# Altium schematic symbol library TI Power Management DC-DC Controller (External Switch).SchLib: 349 symbols (part 16 of 26)
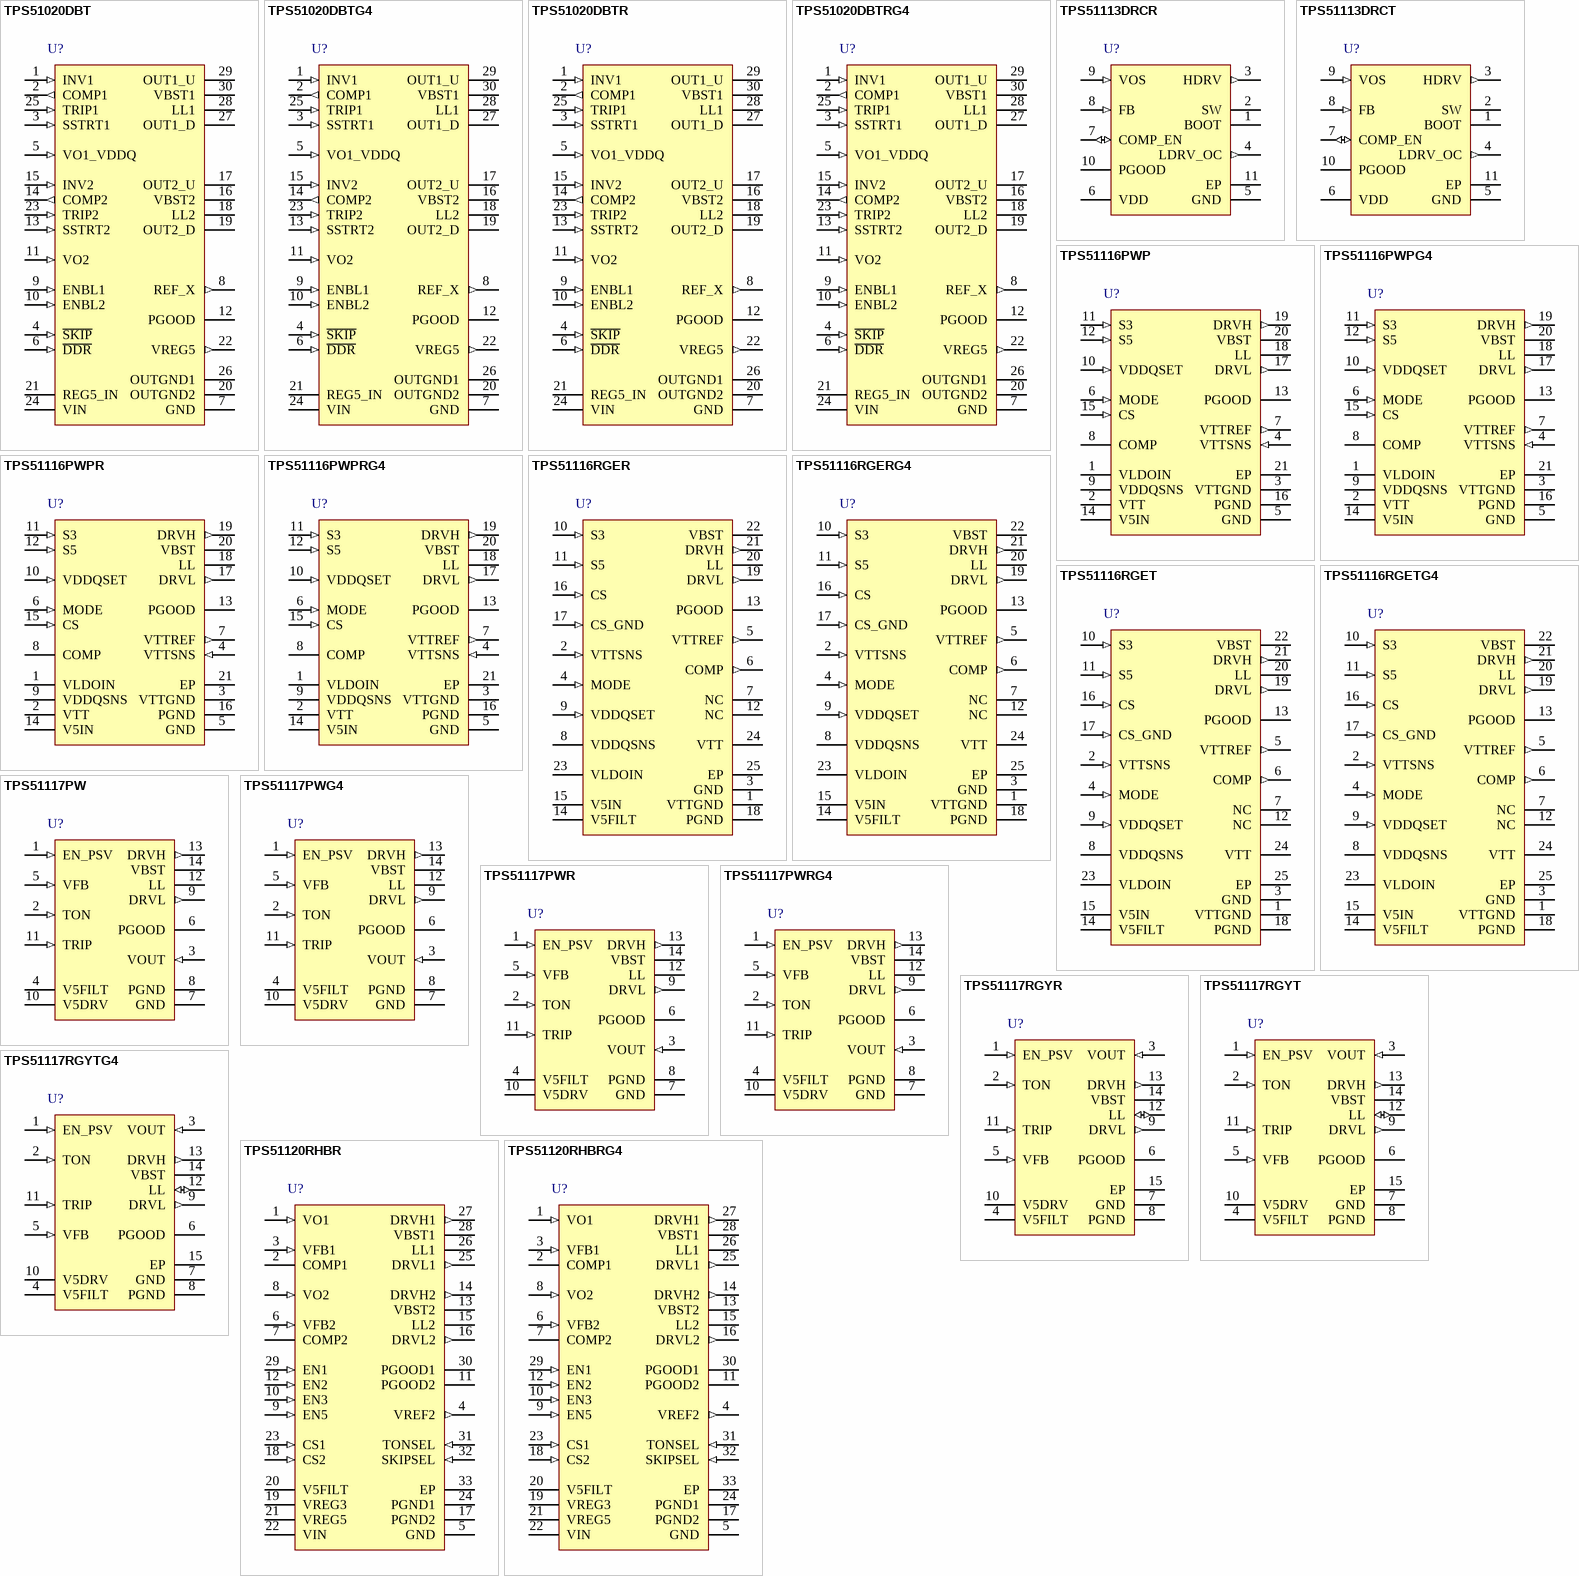
[diagram p29: symbols TPS51020DBT to TPS51120RHBRG4]

## TPS51020DBTR
designator U?
Dual, DDR selectable, Synchronous buck controller, 88 % Duty Cycle, 4.5 to 28 V, -40 to 85 degC, 30-pin TSSOP (DBT), Green (RoHS & no Sb/Br); Manufacturer: Texas Instruments; PartNumber: TPS51020DBTR; Duty Cycle(Max)(%): 88; Iout(Max)(A): 20; Regulated Outputs(#): 2; SubFamily: Multiple-Output Switching Controller; Switching Frequency(Max)(kHz): 450; Synchronous Rectification: TRUE; Vin(Max)(V): 28; Vin(Min)(V): 4.5; Vout(Max)(V): 24; Vout(Min)(V): 0.9; DatasheetVersion: SLUS564C; PackageVersion: Sep-2005; PackageReference: DBT30; PackageDescription: 30-Pin Thin Shrink Small Outline Package 0.5 mm Pitch; Supplier 1: Digi-Key; Supplier Part Number 1: 296-26971-2-ND; Eco-Plan: Green (RoHS & no Sb/Br); Iout2(A): 20; Topology: Buck; Vout2(Max)(V): 24; Vout2(Min)(V): 0.9; Mounting Technology: Surface Mount; Code_JEDEC: MO-153; ComponentLink1Description: Datasheet; ComponentLink1URL: http://www.ti.com/general/docs/lit/getliterature.tsp?genericPartNumber=TPS51020&fileType=pdf; ComponentLink2Description: Package Specification; ComponentLink2URL: http://www.ti.com/litv/pdf/mpds019h
footprint DBT30_N (TSSOP, 30-Leads, Body 7.8x4.4mm, Pitch 0.5mm, IPC Medium Density)
footprint DBT30_L (TSSOP, 30-Leads, Body 7.8x4.4mm, Pitch 0.5mm, IPC High Density)
footprint DBT30_M (TSSOP, 30-Leads, Body 7.8x4.4mm, Pitch 0.5mm, IPC Low Density)
pins: 1 INV1 (in) "Error amplifier inverting input. Also input for skip comparator, and OVP/UVP comparators.", 2 COMP1 (out) "Error amplifier output. Connect feedback network to this pin and INVx for compensation of control loop.", 3 SSTRT1 (in) "Soft-start/frequency select input. Connect a capacitor between SSTRTx and ground for adjusting the softstart time. A constant current fed to this capacitor ramps the reference during startup. Frequency selection is de- (See Datasheet)", 4 ~{SKIP} (in) "Skip mode selection pin. Ground for automatic control between PWM mode in heavy load and hysteretic operation in light load. Tie high for PWM only operation for the entire load condition. If D\D\R\ is grounded, then skip (See Datasheet)", 5 VO1_VDDQ (in) "Output discharge pin. Connect this pin to the SMPS output. The output is discharged to at least 0.3 V before the channel can start-up again. If D\D\R\ is low, then the VO1_VDDQ pin must be connected to the VDDQ output since (See Datasheet)", 6 ~{DDR} (in) "D\D\R\ selection pin. If this pin is grounded, the device runs in DDR Mode. The error amplifier reference for VO2 is (VO1_VDDQ)/2, the REF_X output voltage becomes (VO1_VDDQ)/2 and skip mode is disabled for VO2, Also, VREG5 (See Datasheet)", 7 GND (power) "Signal ground pin.", 8 REF_X (out) "10-V N-channel MOSFET bias or (VO1_VDDQ)/2 reference output. If dual mode is selected (D\D\R\ > 2.2 V) then this pin provides a low 10-V current (< 2 mA) bias, dropped down from VIN, for the SO - S5 switched N-channel (See Datasheet)", 9 ENBL1 (in) "TTL Enable Input. If ENBLx is greater than 2.2 V, then the VREG5 is enabled (DDR mode) and the SMPS of that channel attempts to turn on. If both ENBL1 and ENBL2 are low then the 10-V (or (VO1_VDDQ)/2 output) voltage as well (See Datasheet)", 10 ENBL2 (in) "TTL Enable Input. If ENBLx is greater than 2.2 V, then the VREG5 is enabled (DDR mode) and the SMPS of that channel attempts to turn on. If both ENBL1 and ENBL2 are low then the 10-V (or (VO1_VDDQ)/2 output) voltage as well (See Datasheet)", 11 VO2 (in) "Output discharge pin. Connect this pin to the SMPS output. The output is discharged to at least 0.3 V before the channel can start-up again. If D\D\R\ is low, then the VO1_VDDQ pin must be connected to the VDDQ output since (See Datasheet)", 12 PGOOD (oc) "Power good output. This is an open drain pull-down pin for power good. It remains low during soft-start until both outputs become within +/-7.5%. If INV1 or INV2 is out of regulation, or VREG5V goes under UVLO then this pin (See Datasheet)", 13 SSTRT2 (in) "Soft-start/frequency select input. Connect a capacitor between SSTRTx and ground for adjusting the softstart time. A constant current fed to this capacitor ramps the reference during startup. Frequency selection is de- (See Datasheet)", 14 COMP2 (out) "Error amplifier output. Connect feedback network to this pin and INVx for compensation of control loop.", 15 INV2 (in) "Error amplifier inverting input. Also input for skip comparator, and OVP/UVP comparators.", 16 VBST2 (power) "Supply Input for high-side N-channel FET driver. Typically connected via charge pump from LLx.", 17 OUT2_U (hiz) "High-side N-channel MOSFET driver output.", 18 LL2 (power) "Switch-node connection for high-side driver and overcurrent protection circuitry.", 19 OUT2_D (hiz) "Synchronous N-channel MOSFET driver output.", 20 OUTGND2 (power) "Ground return for OUTx_D.", 21 REG5_IN (power) "External 5V regulator Input. If this pin is above 4.7 V, then the 5 V circuit bias switches from the VREF5 to the supply presented to REG5_IN.", 22 VREG5 (out) "Internal, 60-mA, 5-V regulator output. D\D\R\, ENBL1 or ENBL2 high ( > 2.2V) turns on the 5 V regulator.", 23 TRIP2 (in) "Channel 2 overcurrent trip point voltage input. Connect a resistor between TRIP2 and the high-side N-channel MOSFET input conversion voltage for high-side N-channel MOSFET UVP current limit shut down with a 180degrees (See Datasheet)", 24 VIN (power) "High-voltage input. Typically the battery voltage. This pin serves as inputs for the VREF5 regulator, the REF_X regulator and positive input for overcurrent comparators. Precaution should be taken for tracing between this (See Datasheet)", 25 TRIP1 (in) "Channel 1 overcurrent trip point voltage input. Connect a resistor between TRIP1 and the high-side N-channel MOSFET input conversion voltage for high-side N-channel MOSFET UVP current limit shut down. Connect resistor (See Datasheet)", 26 OUTGND1 (power) "Ground return for OUTx_D.", 27 OUT1_D (hiz) "Synchronous N-channel MOSFET driver output.", 28 LL1 (power) "Switch-node connection for high-side driver and overcurrent protection circuitry.", 29 OUT1_U (hiz) "High-side N-channel MOSFET driver output.", 30 VBST1 (power) "Supply Input for high-side N-channel FET driver. Typically connected via charge pump from LLx."

## TPS51020DBTRG4
designator U?
Dual, DDR selectable, Synchronous buck controller, 88 % Duty Cycle, 4.5 to 28 V, -40 to 85 degC, 30-pin TSSOP (DBT), Green (RoHS & no Sb/Br); Manufacturer: Texas Instruments; PartNumber: TPS51020DBTRG4; Duty Cycle(Max)(%): 88; Iout(Max)(A): 20; Regulated Outputs(#): 2; SubFamily: Multiple-Output Switching Controller; Switching Frequency(Max)(kHz): 450; Synchronous Rectification: TRUE; Vin(Max)(V): 28; Vin(Min)(V): 4.5; Vout(Max)(V): 24; Vout(Min)(V): 0.9; DatasheetVersion: SLUS564C; PackageVersion: Sep-2005; PackageReference: DBT30; PackageDescription: 30-Pin Thin Shrink Small Outline Package 0.5 mm Pitch; Supplier 1: Digi-Key; Supplier Part Number 1: TPS51020DBTRG4-ND; Eco-Plan: Green (RoHS & no Sb/Br); Iout2(A): 20; Topology: Buck; Vout2(Max)(V): 24; Vout2(Min)(V): 0.9; Mounting Technology: Surface Mount; Code_JEDEC: MO-153; ComponentLink1Description: Datasheet; ComponentLink1URL: http://www.ti.com/general/docs/lit/getliterature.tsp?genericPartNumber=TPS51020&fileType=pdf; ComponentLink2Description: Package Specification; ComponentLink2URL: http://www.ti.com/litv/pdf/mpds019h
footprint DBT30_N (TSSOP, 30-Leads, Body 7.8x4.4mm, Pitch 0.5mm, IPC Medium Density)
footprint DBT30_L (TSSOP, 30-Leads, Body 7.8x4.4mm, Pitch 0.5mm, IPC High Density)
footprint DBT30_M (TSSOP, 30-Leads, Body 7.8x4.4mm, Pitch 0.5mm, IPC Low Density)
pins: 1 INV1 (in) "Error amplifier inverting input. Also input for skip comparator, and OVP/UVP comparators.", 2 COMP1 (out) "Error amplifier output. Connect feedback network to this pin and INVx for compensation of control loop.", 3 SSTRT1 (in) "Soft-start/frequency select input. Connect a capacitor between SSTRTx and ground for adjusting the softstart time. A constant current fed to this capacitor ramps the reference during startup. Frequency selection is de- (See Datasheet)", 4 ~{SKIP} (in) "Skip mode selection pin. Ground for automatic control between PWM mode in heavy load and hysteretic operation in light load. Tie high for PWM only operation for the entire load condition. If D\D\R\ is grounded, then skip (See Datasheet)", 5 VO1_VDDQ (in) "Output discharge pin. Connect this pin to the SMPS output. The output is discharged to at least 0.3 V before the channel can start-up again. If D\D\R\ is low, then the VO1_VDDQ pin must be connected to the VDDQ output since (See Datasheet)", 6 ~{DDR} (in) "D\D\R\ selection pin. If this pin is grounded, the device runs in DDR Mode. The error amplifier reference for VO2 is (VO1_VDDQ)/2, the REF_X output voltage becomes (VO1_VDDQ)/2 and skip mode is disabled for VO2, Also, VREG5 (See Datasheet)", 7 GND (power) "Signal ground pin.", 8 REF_X (out) "10-V N-channel MOSFET bias or (VO1_VDDQ)/2 reference output. If dual mode is selected (D\D\R\ > 2.2 V) then this pin provides a low 10-V current (< 2 mA) bias, dropped down from VIN, for the SO - S5 switched N-channel (See Datasheet)", 9 ENBL1 (in) "TTL Enable Input. If ENBLx is greater than 2.2 V, then the VREG5 is enabled (DDR mode) and the SMPS of that channel attempts to turn on. If both ENBL1 and ENBL2 are low then the 10-V (or (VO1_VDDQ)/2 output) voltage as well (See Datasheet)", 10 ENBL2 (in) "TTL Enable Input. If ENBLx is greater than 2.2 V, then the VREG5 is enabled (DDR mode) and the SMPS of that channel attempts to turn on. If both ENBL1 and ENBL2 are low then the 10-V (or (VO1_VDDQ)/2 output) voltage as well (See Datasheet)", 11 VO2 (in) "Output discharge pin. Connect this pin to the SMPS output. The output is discharged to at least 0.3 V before the channel can start-up again. If D\D\R\ is low, then the VO1_VDDQ pin must be connected to the VDDQ output since (See Datasheet)", 12 PGOOD (oc) "Power good output. This is an open drain pull-down pin for power good. It remains low during soft-start until both outputs become within +/-7.5%. If INV1 or INV2 is out of regulation, or VREG5V goes under UVLO then this pin (See Datasheet)", 13 SSTRT2 (in) "Soft-start/frequency select input. Connect a capacitor between SSTRTx and ground for adjusting the softstart time. A constant current fed to this capacitor ramps the reference during startup. Frequency selection is de- (See Datasheet)", 14 COMP2 (out) "Error amplifier output. Connect feedback network to this pin and INVx for compensation of control loop.", 15 INV2 (in) "Error amplifier inverting input. Also input for skip comparator, and OVP/UVP comparators.", 16 VBST2 (power) "Supply Input for high-side N-channel FET driver. Typically connected via charge pump from LLx.", 17 OUT2_U (hiz) "High-side N-channel MOSFET driver output.", 18 LL2 (power) "Switch-node connection for high-side driver and overcurrent protection circuitry.", 19 OUT2_D (hiz) "Synchronous N-channel MOSFET driver output.", 20 OUTGND2 (power) "Ground return for OUTx_D.", 21 REG5_IN (power) "External 5V regulator Input. If this pin is above 4.7 V, then the 5 V circuit bias switches from the VREF5 to the supply presented to REG5_IN.", 22 VREG5 (out) "Internal, 60-mA, 5-V regulator output. D\D\R\, ENBL1 or ENBL2 high ( > 2.2V) turns on the 5 V regulator.", 23 TRIP2 (in) "Channel 2 overcurrent trip point voltage input. Connect a resistor between TRIP2 and the high-side N-channel MOSFET input conversion voltage for high-side N-channel MOSFET UVP current limit shut down with a 180degrees (See Datasheet)", 24 VIN (power) "High-voltage input. Typically the battery voltage. This pin serves as inputs for the VREF5 regulator, the REF_X regulator and positive input for overcurrent comparators. Precaution should be taken for tracing between this (See Datasheet)", 25 TRIP1 (in) "Channel 1 overcurrent trip point voltage input. Connect a resistor between TRIP1 and the high-side N-channel MOSFET input conversion voltage for high-side N-channel MOSFET UVP current limit shut down. Connect resistor (See Datasheet)", 26 OUTGND1 (power) "Ground return for OUTx_D.", 27 OUT1_D (hiz) "Synchronous N-channel MOSFET driver output.", 28 LL1 (power) "Switch-node connection for high-side driver and overcurrent protection circuitry.", 29 OUT1_U (hiz) "High-side N-channel MOSFET driver output.", 30 VBST1 (power) "Supply Input for high-side N-channel FET driver. Typically connected via charge pump from LLx."

## TPS51113DRCR
designator U?
4.5 to 13.2 V Synchronous Buck Controller with High Current Gate Driver, 300 kHz, 72 % Duty Cycle, 4.5 to 13.2 V, -40 to 85 degC, 10-pin SON (DRC), Green (RoHS & no Sb/Br); Manufacturer: Texas Instruments; PartNumber: TPS51113DRCR; Duty Cycle(Max)(%): 72; Regulated Outputs(#): 1; SubFamily: Step-Down Controller; Switching Frequency(Max)(kHz): 300; Synchronous Rectification: TRUE; Vin(Max)(V): 13.2; Vin(Min)(V): 4.5; DatasheetVersion: SLUS864; PackageVersion: revL, Sep-2011; PackageReference: DRC10-2400X1650TP; PackageDescription: 10-Pin Plastic Small Outline No-Lead, 3 x 3 x 1 mm Body, 0.5 mm Pitch, Exposed Pad; Supplier 1: Digi-Key; Supplier Part Number 1: TPS51113DRCR-ND; Eco-Plan: Green (RoHS & no Sb/Br); Topology: Buck; Mounting Technology: Surface Mount; ComponentLink1Description: Datasheet; ComponentLink1URL: http://www.ti.com/general/docs/lit/getliterature.tsp?genericPartNumber=TPS51113&fileType=pdf; ComponentLink2Description: Package Specification; ComponentLink2URL: http://www.ti.com/litv/pdf/mpds117k
footprint DRC10-2400X1650TP (SON, 10-Leads, Body 3x3mm, Pitch 0.5mm, Thermal Pad 2.4x1.65mm, TI Recommended)
pins: 1 BOOT (power) "Gate drive voltage for the high-side N-channel MOSFET. Typically, a 100 nF capacitor must be connected between this pin and SW. Also, a diode from VDD to BOOT should be externally provided.", 2 SW (power) "Sense line for the adaptive anti-cross conduction circuitry. Serves as common connection for the flying high-side FET driver.", 3 HDRV (out) "Gate drive output for the high-side N-channel MOSFET.", 4 LDRV_OC (out) "Gate drive output for the low-side or rectifier MOSFET. The set point is read during start up calibration with the 10 uA current source present.", 5 GND (power) "Common reference for the device", 6 VDD (power) "Power input to the controller, 4.5 V to 13.2 V.", 7 COMP_EN (io) "Output of the error amplifier and the shutdown pin. Pulling the voltage on this pin lower than 800 mV shuts the controller down.", 8 FB (in) "Inverting input to the error amplifier. In normal operation, the voltage on this pin is equal to the internal reference voltage of 800mV.", 9 VOS (in) "Input to set undervoltage and overvoltage protections. Undervoltage protection occurs when VOS voltage is lower than 600mV. The controller shuts down with both MOSFETs latched off. Overvoltage protection occurs when VOS (See Datasheet)", 10 PGOOD (oc) "Open drain power good output. An external pull-up resistor is required.", 11 EP (power)

## TPS51113DRCT
designator U?
4.5 to 13.2 V Synchronous Buck Controller with High Current Gate Driver, 300 kHz, 72 % Duty Cycle, 4.5 to 13.2 V, -40 to 85 degC, 10-pin SON (DRC), Green (RoHS & no Sb/Br); Manufacturer: Texas Instruments; PartNumber: TPS51113DRCT; Duty Cycle(Max)(%): 72; Regulated Outputs(#): 1; SubFamily: Step-Down Controller; Switching Frequency(Max)(kHz): 300; Synchronous Rectification: TRUE; Vin(Max)(V): 13.2; Vin(Min)(V): 4.5; DatasheetVersion: SLUS864; PackageVersion: revL, Sep-2011; PackageReference: DRC10-2400X1650TP; PackageDescription: 10-Pin Plastic Small Outline No-Lead, 3 x 3 x 1 mm Body, 0.5 mm Pitch, Exposed Pad; Supplier 1: Digi-Key; Supplier Part Number 1: 296-24245-2-ND; Eco-Plan: Green (RoHS & no Sb/Br); Topology: Buck; Mounting Technology: Surface Mount; ComponentLink1Description: Datasheet; ComponentLink1URL: http://www.ti.com/general/docs/lit/getliterature.tsp?genericPartNumber=TPS51113&fileType=pdf; ComponentLink2Description: Package Specification; ComponentLink2URL: http://www.ti.com/litv/pdf/mpds117k
footprint DRC10-2400X1650TP (SON, 10-Leads, Body 3x3mm, Pitch 0.5mm, Thermal Pad 2.4x1.65mm, TI Recommended)
pins: 1 BOOT (power) "Gate drive voltage for the high-side N-channel MOSFET. Typically, a 100 nF capacitor must be connected between this pin and SW. Also, a diode from VDD to BOOT should be externally provided.", 2 SW (power) "Sense line for the adaptive anti-cross conduction circuitry. Serves as common connection for the flying high-side FET driver.", 3 HDRV (out) "Gate drive output for the high-side N-channel MOSFET.", 4 LDRV_OC (out) "Gate drive output for the low-side or rectifier MOSFET. The set point is read during start up calibration with the 10 uA current source present.", 5 GND (power) "Common reference for the device", 6 VDD (power) "Power input to the controller, 4.5 V to 13.2 V.", 7 COMP_EN (io) "Output of the error amplifier and the shutdown pin. Pulling the voltage on this pin lower than 800 mV shuts the controller down.", 8 FB (in) "Inverting input to the error amplifier. In normal operation, the voltage on this pin is equal to the internal reference voltage of 800mV.", 9 VOS (in) "Input to set undervoltage and overvoltage protections. Undervoltage protection occurs when VOS voltage is lower than 600mV. The controller shuts down with both MOSFETs latched off. Overvoltage protection occurs when VOS (See Datasheet)", 10 PGOOD (oc) "Open drain power good output. An external pull-up resistor is required.", 11 EP (power)

## TPS51116PWP
designator U?
DDR1, DDR2, DDR3 Switcher and LDO, 84 % Duty Cycle, 3 to 28 V, -40 to 85 degC, 20-pin HTSSOP (PWP), Green (RoHS & no Sb/Br); Manufacturer: Texas Instruments; PartNumber: TPS51116PWP; Duty Cycle(Max)(%): 84; Iout(Max)(A): 10; Regulated Outputs(#): 1; SubFamily: Multiple-Output Switching Controller; Switching Frequency(Max)(kHz): 400; Synchronous Rectification: TRUE; Topology: Buck, D-CAP Mode"; Vin(Max)(V): 28; Vin(Min)(V): 3; Vout(Min)(V): 1.5; DatasheetVersion: SLUS609H; PackageVersion: revI, May-2011; PackageReference: PWP20-3005X2005TP; PackageDescription: 20-Pin PowerPAD Plastic Small Outline 6.5 x 4.4 mm Body ,0.65 mm Pitch, Exposed Pad; Supplier 1: Digi-Key; Supplier Part Number 1: 296-17243-ND; Eco-Plan: Green (RoHS & no Sb/Br); Vout(Max)(V): 3; Mounting Technology: Surface Mount; Code_JEDEC: MO-153; ComponentLink1Description: Datasheet; ComponentLink1URL: http://www.ti.com/general/docs/lit/getliterature.tsp?genericPartNumber=TPS51116&fileType=pdf; ComponentLink2Description: Package Specification; ComponentLink2URL: http://www.ti.com/lit/ml/mhts001g/mhts001g.pdf
footprint PWP20-3005X2005TP_N (TSOP, 20-Leads, Body 6.5x4.4mm, Pitch 0.65mm, Thermal Pad 3.7x2.4 mm, IPC Medium Density)
footprint PWP20-3005X2005TP_L (TSOP, 20-Leads, Body 6.5x4.4mm, Pitch 0.65mm, Thermal Pad 3.7x2.4 mm, IPC High Density)
footprint PWP20-3005X2005TP_M (TSOP, 20-Leads, Body 6.5x4.4mm, Pitch 0.65mm, Thermal Pad 3.7x2.4 mm, IPC Low Density)
pins: 1 VLDOIN (power) "Power supply for the VTT LDO.", 2 VTT (power) "Power output for the VTT LDO.", 3 VTTGND (power) "Power ground output for the VTT LDO.", 4 VTTSNS (in) "Voltage sense input for the VTT LDO. Connect to plus terminal of the VTT LDO output capacitor.", 5 GND (power) "Signal ground. Connect to minus terminal of the VTT LDO output capacitor.", 6 MODE (in) "Discharge mode setting pin. See VDDQ and VTT Discharge Control section.", 7 VTTREF (out) "VTTREF buffered reference output.", 8 COMP "Output of the transconductance amplifier for phase compensation. Connect to V5IN to disable gm amplifier and use D-CAP mode.", 9 VDDQSNS "VDDQ reference input for VTT and VTTREF. Power supply for the VTTREF. Discharge current sinking terminal for VDDQ Non-tracking discharge. Output voltage feedback input for VDDQ output if VDDQSET pin is connected to V5IN or (See Datasheet)", 10 VDDQSET (in) "VDDQ output voltage setting pin. See VDDQ Output Voltage Selection section.", 11 S3 (in) "S3 signal input.", 12 S5 (in) "S5 signal input.", 13 PGOOD (oc) "Powergood signal open drain output, In HIGH state when VDDQ output voltage is within the target range.", 14 V5IN (power) "5-V power supply input for internal circuits (PWP) and MOSFET gate drivers (PWP, RGE).", 15 CS (in) "Current sense comparator input (-) for resistor current sense scheme. Or overcurrent trip voltage setting input for RDS(on) current sense scheme if connected to V5IN (PWP), V5FILT (RGE) through the voltage setting resistor.", 16 PGND (power) "Ground for rectifying (bottom) MOSFET gate driver (PWP, RGE). Also current sense comparator input(+) and ground for powergood circuit (PWP).", 17 DRVL (out) "Rectifying (bottom) MOSFET gate drive output.", 18 LL (power) "Switching (top) MOSFET gate driver return. Current sense comparator input (-) for RDS(on) current sense.", 19 DRVH (out) "Switching (top) MOSFET gate drive output.", 20 VBST (power) "Switching (top) MOSFET driver bootstrap voltage input.", 21 EP (power) "Exposed Thermal Pad."

## TPS51116PWPG4
designator U?
DDR1, DDR2, DDR3 Switcher and LDO, 84 % Duty Cycle, 3 to 28 V, -40 to 85 degC, 20-pin HTSSOP (PWP), Green (RoHS & no Sb/Br); Manufacturer: Texas Instruments; PartNumber: TPS51116PWPG4; Duty Cycle(Max)(%): 84; Iout(Max)(A): 10; Regulated Outputs(#): 1; SubFamily: Multiple-Output Switching Controller; Switching Frequency(Max)(kHz): 400; Synchronous Rectification: TRUE; Topology: Buck, D-CAP Mode"; Vin(Max)(V): 28; Vin(Min)(V): 3; Vout(Min)(V): 1.5; DatasheetVersion: SLUS609H; PackageVersion: revI, May-2011; PackageReference: PWP20-3005X2005TP; PackageDescription: 20-Pin PowerPAD Plastic Small Outline 6.5 x 4.4 mm Body ,0.65 mm Pitch, Exposed Pad; Supplier 1: Digi-Key; Supplier Part Number 1: TPS51116PWPG4-ND; Eco-Plan: Green (RoHS & no Sb/Br); Vout(Max)(V): 3; Mounting Technology: Surface Mount; Code_JEDEC: MO-153; ComponentLink1Description: Datasheet; ComponentLink1URL: http://www.ti.com/general/docs/lit/getliterature.tsp?genericPartNumber=TPS51116&fileType=pdf; ComponentLink2Description: Package Specification; ComponentLink2URL: http://www.ti.com/lit/ml/mhts001g/mhts001g.pdf
footprint PWP20-3005X2005TP_N (TSOP, 20-Leads, Body 6.5x4.4mm, Pitch 0.65mm, Thermal Pad 3.7x2.4 mm, IPC Medium Density)
footprint PWP20-3005X2005TP_L (TSOP, 20-Leads, Body 6.5x4.4mm, Pitch 0.65mm, Thermal Pad 3.7x2.4 mm, IPC High Density)
footprint PWP20-3005X2005TP_M (TSOP, 20-Leads, Body 6.5x4.4mm, Pitch 0.65mm, Thermal Pad 3.7x2.4 mm, IPC Low Density)
pins: 1 VLDOIN (power) "Power supply for the VTT LDO.", 2 VTT (power) "Power output for the VTT LDO.", 3 VTTGND (power) "Power ground output for the VTT LDO.", 4 VTTSNS (in) "Voltage sense input for the VTT LDO. Connect to plus terminal of the VTT LDO output capacitor.", 5 GND (power) "Signal ground. Connect to minus terminal of the VTT LDO output capacitor.", 6 MODE (in) "Discharge mode setting pin. See VDDQ and VTT Discharge Control section.", 7 VTTREF (out) "VTTREF buffered reference output.", 8 COMP "Output of the transconductance amplifier for phase compensation. Connect to V5IN to disable gm amplifier and use D-CAP mode.", 9 VDDQSNS "VDDQ reference input for VTT and VTTREF. Power supply for the VTTREF. Discharge current sinking terminal for VDDQ Non-tracking discharge. Output voltage feedback input for VDDQ output if VDDQSET pin is connected to V5IN or (See Datasheet)", 10 VDDQSET (in) "VDDQ output voltage setting pin. See VDDQ Output Voltage Selection section.", 11 S3 (in) "S3 signal input.", 12 S5 (in) "S5 signal input.", 13 PGOOD (oc) "Powergood signal open drain output, In HIGH state when VDDQ output voltage is within the target range.", 14 V5IN (power) "5-V power supply input for internal circuits (PWP) and MOSFET gate drivers (PWP, RGE).", 15 CS (in) "Current sense comparator input (-) for resistor current sense scheme. Or overcurrent trip voltage setting input for RDS(on) current sense scheme if connected to V5IN (PWP), V5FILT (RGE) through the voltage setting resistor.", 16 PGND (power) "Ground for rectifying (bottom) MOSFET gate driver (PWP, RGE). Also current sense comparator input(+) and ground for powergood circuit (PWP).", 17 DRVL (out) "Rectifying (bottom) MOSFET gate drive output.", 18 LL (power) "Switching (top) MOSFET gate driver return. Current sense comparator input (-) for RDS(on) current sense.", 19 DRVH (out) "Switching (top) MOSFET gate drive output.", 20 VBST (power) "Switching (top) MOSFET driver bootstrap voltage input.", 21 EP (power) "Exposed Thermal Pad."

## TPS51116PWPR
designator U?
DDR1, DDR2, DDR3 Switcher and LDO, 84 % Duty Cycle, 3 to 28 V, -40 to 85 degC, 20-pin HTSSOP (PWP), Green (RoHS & no Sb/Br); Manufacturer: Texas Instruments; PartNumber: TPS51116PWPR; Duty Cycle(Max)(%): 84; Iout(Max)(A): 10; Regulated Outputs(#): 1; SubFamily: Multiple-Output Switching Controller; Switching Frequency(Max)(kHz): 400; Synchronous Rectification: TRUE; Topology: Buck, D-CAP Mode"; Vin(Max)(V): 28; Vin(Min)(V): 3; Vout(Min)(V): 1.5; DatasheetVersion: SLUS609H; PackageVersion: revI, May-2011; PackageReference: PWP20-3005X2005TP; PackageDescription: 20-Pin PowerPAD Plastic Small Outline 6.5 x 4.4 mm Body ,0.65 mm Pitch, Exposed Pad; Supplier 1: Digi-Key; Supplier Part Number 1: 296-26972-2-ND; Eco-Plan: Green (RoHS & no Sb/Br); Vout(Max)(V): 3; Mounting Technology: Surface Mount; Code_JEDEC: MO-153; ComponentLink1Description: Datasheet; ComponentLink1URL: http://www.ti.com/general/docs/lit/getliterature.tsp?genericPartNumber=TPS51116&fileType=pdf; ComponentLink2Description: Package Specification; ComponentLink2URL: http://www.ti.com/lit/ml/mhts001g/mhts001g.pdf
footprint PWP20-3005X2005TP_N (TSOP, 20-Leads, Body 6.5x4.4mm, Pitch 0.65mm, Thermal Pad 3.7x2.4 mm, IPC Medium Density)
footprint PWP20-3005X2005TP_L (TSOP, 20-Leads, Body 6.5x4.4mm, Pitch 0.65mm, Thermal Pad 3.7x2.4 mm, IPC High Density)
footprint PWP20-3005X2005TP_M (TSOP, 20-Leads, Body 6.5x4.4mm, Pitch 0.65mm, Thermal Pad 3.7x2.4 mm, IPC Low Density)
pins: 1 VLDOIN (power) "Power supply for the VTT LDO.", 2 VTT (power) "Power output for the VTT LDO.", 3 VTTGND (power) "Power ground output for the VTT LDO.", 4 VTTSNS (in) "Voltage sense input for the VTT LDO. Connect to plus terminal of the VTT LDO output capacitor.", 5 GND (power) "Signal ground. Connect to minus terminal of the VTT LDO output capacitor.", 6 MODE (in) "Discharge mode setting pin. See VDDQ and VTT Discharge Control section.", 7 VTTREF (out) "VTTREF buffered reference output.", 8 COMP "Output of the transconductance amplifier for phase compensation. Connect to V5IN to disable gm amplifier and use D-CAP mode.", 9 VDDQSNS "VDDQ reference input for VTT and VTTREF. Power supply for the VTTREF. Discharge current sinking terminal for VDDQ Non-tracking discharge. Output voltage feedback input for VDDQ output if VDDQSET pin is connected to V5IN or (See Datasheet)", 10 VDDQSET (in) "VDDQ output voltage setting pin. See VDDQ Output Voltage Selection section.", 11 S3 (in) "S3 signal input.", 12 S5 (in) "S5 signal input.", 13 PGOOD (oc) "Powergood signal open drain output, In HIGH state when VDDQ output voltage is within the target range.", 14 V5IN (power) "5-V power supply input for internal circuits (PWP) and MOSFET gate drivers (PWP, RGE).", 15 CS (in) "Current sense comparator input (-) for resistor current sense scheme. Or overcurrent trip voltage setting input for RDS(on) current sense scheme if connected to V5IN (PWP), V5FILT (RGE) through the voltage setting resistor.", 16 PGND (power) "Ground for rectifying (bottom) MOSFET gate driver (PWP, RGE). Also current sense comparator input(+) and ground for powergood circuit (PWP).", 17 DRVL (out) "Rectifying (bottom) MOSFET gate drive output.", 18 LL (power) "Switching (top) MOSFET gate driver return. Current sense comparator input (-) for RDS(on) current sense.", 19 DRVH (out) "Switching (top) MOSFET gate drive output.", 20 VBST (power) "Switching (top) MOSFET driver bootstrap voltage input.", 21 EP (power) "Exposed Thermal Pad."

## TPS51116PWPRG4
designator U?
DDR1, DDR2, DDR3 Switcher and LDO, 84 % Duty Cycle, 3 to 28 V, -40 to 85 degC, 20-pin HTSSOP (PWP), Green (RoHS & no Sb/Br); Manufacturer: Texas Instruments; PartNumber: TPS51116PWPRG4; Duty Cycle(Max)(%): 84; Iout(Max)(A): 10; Regulated Outputs(#): 1; SubFamily: Multiple-Output Switching Controller; Switching Frequency(Max)(kHz): 400; Synchronous Rectification: TRUE; Topology: Buck, D-CAP Mode"; Vin(Max)(V): 28; Vin(Min)(V): 3; Vout(Min)(V): 1.5; DatasheetVersion: SLUS609H; PackageVersion: revI, May-2011; PackageReference: PWP20-3005X2005TP; PackageDescription: 20-Pin PowerPAD Plastic Small Outline 6.5 x 4.4 mm Body ,0.65 mm Pitch, Exposed Pad; Supplier 1: Digi-Key; Supplier Part Number 1: TPS51116PWPRG4-ND; Eco-Plan: Green (RoHS & no Sb/Br); Vout(Max)(V): 3; Mounting Technology: Surface Mount; Code_JEDEC: MO-153; ComponentLink1Description: Datasheet; ComponentLink1URL: http://www.ti.com/general/docs/lit/getliterature.tsp?genericPartNumber=TPS51116&fileType=pdf; ComponentLink2Description: Package Specification; ComponentLink2URL: http://www.ti.com/lit/ml/mhts001g/mhts001g.pdf
footprint PWP20-3005X2005TP_N (TSOP, 20-Leads, Body 6.5x4.4mm, Pitch 0.65mm, Thermal Pad 3.7x2.4 mm, IPC Medium Density)
footprint PWP20-3005X2005TP_L (TSOP, 20-Leads, Body 6.5x4.4mm, Pitch 0.65mm, Thermal Pad 3.7x2.4 mm, IPC High Density)
footprint PWP20-3005X2005TP_M (TSOP, 20-Leads, Body 6.5x4.4mm, Pitch 0.65mm, Thermal Pad 3.7x2.4 mm, IPC Low Density)
pins: 1 VLDOIN (power) "Power supply for the VTT LDO.", 2 VTT (power) "Power output for the VTT LDO.", 3 VTTGND (power) "Power ground output for the VTT LDO.", 4 VTTSNS (in) "Voltage sense input for the VTT LDO. Connect to plus terminal of the VTT LDO output capacitor.", 5 GND (power) "Signal ground. Connect to minus terminal of the VTT LDO output capacitor.", 6 MODE (in) "Discharge mode setting pin. See VDDQ and VTT Discharge Control section.", 7 VTTREF (out) "VTTREF buffered reference output.", 8 COMP "Output of the transconductance amplifier for phase compensation. Connect to V5IN to disable gm amplifier and use D-CAP mode.", 9 VDDQSNS "VDDQ reference input for VTT and VTTREF. Power supply for the VTTREF. Discharge current sinking terminal for VDDQ Non-tracking discharge. Output voltage feedback input for VDDQ output if VDDQSET pin is connected to V5IN or (See Datasheet)", 10 VDDQSET (in) "VDDQ output voltage setting pin. See VDDQ Output Voltage Selection section.", 11 S3 (in) "S3 signal input.", 12 S5 (in) "S5 signal input.", 13 PGOOD (oc) "Powergood signal open drain output, In HIGH state when VDDQ output voltage is within the target range.", 14 V5IN (power) "5-V power supply input for internal circuits (PWP) and MOSFET gate drivers (PWP, RGE).", 15 CS (in) "Current sense comparator input (-) for resistor current sense scheme. Or overcurrent trip voltage setting input for RDS(on) current sense scheme if connected to V5IN (PWP), V5FILT (RGE) through the voltage setting resistor.", 16 PGND (power) "Ground for rectifying (bottom) MOSFET gate driver (PWP, RGE). Also current sense comparator input(+) and ground for powergood circuit (PWP).", 17 DRVL (out) "Rectifying (bottom) MOSFET gate drive output.", 18 LL (power) "Switching (top) MOSFET gate driver return. Current sense comparator input (-) for RDS(on) current sense.", 19 DRVH (out) "Switching (top) MOSFET gate drive output.", 20 VBST (power) "Switching (top) MOSFET driver bootstrap voltage input.", 21 EP (power) "Exposed Thermal Pad."

## TPS51116RGER
designator U?
DDR1, DDR2, DDR3 Switcher and LDO, 84 % Duty Cycle, 3 to 28 V, -40 to 85 degC, 24-pin VQFN (RGE), Green (RoHS & no Sb/Br); Manufacturer: Texas Instruments; PartNumber: TPS51116RGER; Duty Cycle(Max)(%): 84; Iout(Max)(A): 10; Regulated Outputs(#): 1; SubFamily: Multiple-Output Switching Controller; Switching Frequency(Max)(kHz): 400; Synchronous Rectification: TRUE; Topology: Buck, D-CAP Mode"; Vin(Max)(V): 28; Vin(Min)(V): 3; Vout(Min)(V): 1.5; DatasheetVersion: SLUS609H; PackageVersion: revG, Jul-2011; PackageReference: RGE24-2450X2450TP; PackageDescription: 24-Pin Plastic Quad Flatpack No-Lead, 4 x 4 mm Body, 0.5 mm Pitch; Supplier 1: Digi-Key; Supplier Part Number 1: 296-26973-2-ND; Eco-Plan: Green (RoHS & no Sb/Br); Vout(Max)(V): 3; Mounting Technology: Surface Mount; Code_JEDEC: MO-220; ComponentLink1Description: Datasheet; ComponentLink1URL: http://www.ti.com/general/docs/lit/getliterature.tsp?genericPartNumber=TPS51116&fileType=pdf; ComponentLink2Description: Package Specification; ComponentLink2URL: http://www.ti.com/litv/pdf/mpqf124f
footprint RGE24-2450X2450TP (QFN, 24-Leads, Body 4x4mm, Pitch 0.5mm, Thermal Pad 2.45x2.45mm, TI Recommended)
pins: 1 VTTGND (power) "Power ground output for the VTT LDO.", 2 VTTSNS (in) "Voltage sense input for the VTT LDO. Connect to plus terminal of the VTT LDO output capacitor.", 3 GND (power) "Signal ground. Connect to minus terminal of the VTT LDO output capacitor.", 4 MODE (in) "Discharge mode setting pin. See VDDQ and VTT Discharge Control section.", 5 VTTREF (out) "VTTREF buffered reference output.", 6 COMP (out) "Output of the transconductance amplifier for phase compensation. Connect to V5IN to disable gm amplifier and use D-CAP mode.", 7 NC "No connect.", 8 VDDQSNS "VDDQ reference input for VTT and VTTREF. Power supply for the VTTREF. Discharge current sinking terminal for VDDQ Non-tracking discharge. Output voltage feedback input for VDDQ output if VDDQSET pin is connected to V5IN or (See Datasheet)", 9 VDDQSET (in) "VDDQ output voltage setting pin. See VDDQ Output Voltage Selection section.", 10 S3 (in) "S3 signal input.", 11 S5 (in) "S5 signal input.", 12 NC "No connect.", 13 PGOOD (oc) "Powergood signal open drain output, In HIGH state when VDDQ output voltage is within the target range.", 14 V5FILT (power) "Filtered 5-V power supply input for internal circuits. Connect R-C network from V5IN to V5FILT.", 15 V5IN (power) "5-V power supply input for internal circuits (PWP) and MOSFET gate drivers (PWP, RGE).", 16 CS (in) "Current sense comparator input (-) for resistor current sense scheme. Or overcurrent trip voltage setting input for RDS(on) current sense scheme if connected to V5IN (PWP), V5FILT (RGE) through the voltage setting resistor.", 17 CS_GND (in) "Current sense comparator input (+) and ground for powergood circuit.", 18 PGND (power) "Ground for rectifying (bottom) MOSFET gate driver (PWP, RGE). Also current sense comparator input(+) and ground for powergood circuit (PWP).", 19 DRVL (out) "Rectifying (bottom) MOSFET gate drive output.", 20 LL (power) "Switching (top) MOSFET gate driver return. Current sense comparator input (-) for RDS(on) current sense.", 21 DRVH (out) "Switching (top) MOSFET gate drive output.", 22 VBST (power) "Switching (top) MOSFET driver bootstrap voltage input.", 23 VLDOIN (power) "Power supply for the VTT LDO.", 24 VTT (power) "Power output for the VTT LDO.", 25 EP (power) "thermal pad."

## TPS51116RGERG4
designator U?
DDR1, DDR2, DDR3 Switcher and LDO, 84 % Duty Cycle, 3 to 28 V, -40 to 85 degC, 24-pin VQFN (RGE), Green (RoHS & no Sb/Br); Manufacturer: Texas Instruments; PartNumber: TPS51116RGERG4; Duty Cycle(Max)(%): 84; Iout(Max)(A): 10; Regulated Outputs(#): 1; SubFamily: Multiple-Output Switching Controller; Switching Frequency(Max)(kHz): 400; Synchronous Rectification: TRUE; Topology: Buck, D-CAP Mode"; Vin(Max)(V): 28; Vin(Min)(V): 3; Vout(Min)(V): 1.5; DatasheetVersion: SLUS609H; PackageVersion: revG, Jul-2011; PackageReference: RGE24-2450X2450TP; PackageDescription: 24-Pin Plastic Quad Flatpack No-Lead, 4 x 4 mm Body, 0.5 mm Pitch; Supplier 1: Digi-Key; Supplier Part Number 1: TPS51116RGERG4-ND; Eco-Plan: Green (RoHS & no Sb/Br); Vout(Max)(V): 3; Mounting Technology: Surface Mount; Code_JEDEC: MO-220; ComponentLink1Description: Datasheet; ComponentLink1URL: http://www.ti.com/general/docs/lit/getliterature.tsp?genericPartNumber=TPS51116&fileType=pdf; ComponentLink2Description: Package Specification; ComponentLink2URL: http://www.ti.com/litv/pdf/mpqf124f
footprint RGE24-2450X2450TP (QFN, 24-Leads, Body 4x4mm, Pitch 0.5mm, Thermal Pad 2.45x2.45mm, TI Recommended)
pins: 1 VTTGND (power) "Power ground output for the VTT LDO.", 2 VTTSNS (in) "Voltage sense input for the VTT LDO. Connect to plus terminal of the VTT LDO output capacitor.", 3 GND (power) "Signal ground. Connect to minus terminal of the VTT LDO output capacitor.", 4 MODE (in) "Discharge mode setting pin. See VDDQ and VTT Discharge Control section.", 5 VTTREF (out) "VTTREF buffered reference output.", 6 COMP (out) "Output of the transconductance amplifier for phase compensation. Connect to V5IN to disable gm amplifier and use D-CAP mode.", 7 NC "No connect.", 8 VDDQSNS "VDDQ reference input for VTT and VTTREF. Power supply for the VTTREF. Discharge current sinking terminal for VDDQ Non-tracking discharge. Output voltage feedback input for VDDQ output if VDDQSET pin is connected to V5IN or (See Datasheet)", 9 VDDQSET (in) "VDDQ output voltage setting pin. See VDDQ Output Voltage Selection section.", 10 S3 (in) "S3 signal input.", 11 S5 (in) "S5 signal input.", 12 NC "No connect.", 13 PGOOD (oc) "Powergood signal open drain output, In HIGH state when VDDQ output voltage is within the target range.", 14 V5FILT (power) "Filtered 5-V power supply input for internal circuits. Connect R-C network from V5IN to V5FILT.", 15 V5IN (power) "5-V power supply input for internal circuits (PWP) and MOSFET gate drivers (PWP, RGE).", 16 CS (in) "Current sense comparator input (-) for resistor current sense scheme. Or overcurrent trip voltage setting input for RDS(on) current sense scheme if connected to V5IN (PWP), V5FILT (RGE) through the voltage setting resistor.", 17 CS_GND (in) "Current sense comparator input (+) and ground for powergood circuit.", 18 PGND (power) "Ground for rectifying (bottom) MOSFET gate driver (PWP, RGE). Also current sense comparator input(+) and ground for powergood circuit (PWP).", 19 DRVL (out) "Rectifying (bottom) MOSFET gate drive output.", 20 LL (power) "Switching (top) MOSFET gate driver return. Current sense comparator input (-) for RDS(on) current sense.", 21 DRVH (out) "Switching (top) MOSFET gate drive output.", 22 VBST (power) "Switching (top) MOSFET driver bootstrap voltage input.", 23 VLDOIN (power) "Power supply for the VTT LDO.", 24 VTT (power) "Power output for the VTT LDO.", 25 EP (power) "thermal pad."

## TPS51116RGET
designator U?
DDR1, DDR2, DDR3 Switcher and LDO, 84 % Duty Cycle, 3 to 28 V, -40 to 85 degC, 24-pin VQFN (RGE), Green (RoHS & no Sb/Br); Manufacturer: Texas Instruments; PartNumber: TPS51116RGET; Duty Cycle(Max)(%): 84; Iout(Max)(A): 10; Regulated Outputs(#): 1; SubFamily: Multiple-Output Switching Controller; Switching Frequency(Max)(kHz): 400; Synchronous Rectification: TRUE; Topology: Buck, D-CAP Mode"; Vin(Max)(V): 28; Vin(Min)(V): 3; Vout(Min)(V): 1.5; DatasheetVersion: SLUS609H; PackageVersion: revG, Jul-2011; PackageReference: RGE24-2450X2450TP; PackageDescription: 24-Pin Plastic Quad Flatpack No-Lead, 4 x 4 mm Body, 0.5 mm Pitch; Supplier 1: Digi-Key; Supplier Part Number 1: 296-18638-2-ND; Eco-Plan: Green (RoHS & no Sb/Br); Vout(Max)(V): 3; Mounting Technology: Surface Mount; Code_JEDEC: MO-220; ComponentLink1Description: Datasheet; ComponentLink1URL: http://www.ti.com/general/docs/lit/getliterature.tsp?genericPartNumber=TPS51116&fileType=pdf; ComponentLink2Description: Package Specification; ComponentLink2URL: http://www.ti.com/litv/pdf/mpqf124f
footprint RGE24-2450X2450TP (QFN, 24-Leads, Body 4x4mm, Pitch 0.5mm, Thermal Pad 2.45x2.45mm, TI Recommended)
pins: 1 VTTGND (power) "Power ground output for the VTT LDO.", 2 VTTSNS (in) "Voltage sense input for the VTT LDO. Connect to plus terminal of the VTT LDO output capacitor.", 3 GND (power) "Signal ground. Connect to minus terminal of the VTT LDO output capacitor.", 4 MODE (in) "Discharge mode setting pin. See VDDQ and VTT Discharge Control section.", 5 VTTREF (out) "VTTREF buffered reference output.", 6 COMP (out) "Output of the transconductance amplifier for phase compensation. Connect to V5IN to disable gm amplifier and use D-CAP mode.", 7 NC "No connect.", 8 VDDQSNS "VDDQ reference input for VTT and VTTREF. Power supply for the VTTREF. Discharge current sinking terminal for VDDQ Non-tracking discharge. Output voltage feedback input for VDDQ output if VDDQSET pin is connected to V5IN or (See Datasheet)", 9 VDDQSET (in) "VDDQ output voltage setting pin. See VDDQ Output Voltage Selection section.", 10 S3 (in) "S3 signal input.", 11 S5 (in) "S5 signal input.", 12 NC "No connect.", 13 PGOOD (oc) "Powergood signal open drain output, In HIGH state when VDDQ output voltage is within the target range.", 14 V5FILT (power) "Filtered 5-V power supply input for internal circuits. Connect R-C network from V5IN to V5FILT.", 15 V5IN (power) "5-V power supply input for internal circuits (PWP) and MOSFET gate drivers (PWP, RGE).", 16 CS (in) "Current sense comparator input (-) for resistor current sense scheme. Or overcurrent trip voltage setting input for RDS(on) current sense scheme if connected to V5IN (PWP), V5FILT (RGE) through the voltage setting resistor.", 17 CS_GND (in) "Current sense comparator input (+) and ground for powergood circuit.", 18 PGND (power) "Ground for rectifying (bottom) MOSFET gate driver (PWP, RGE). Also current sense comparator input(+) and ground for powergood circuit (PWP).", 19 DRVL (out) "Rectifying (bottom) MOSFET gate drive output.", 20 LL (power) "Switching (top) MOSFET gate driver return. Current sense comparator input (-) for RDS(on) current sense.", 21 DRVH (out) "Switching (top) MOSFET gate drive output.", 22 VBST (power) "Switching (top) MOSFET driver bootstrap voltage input.", 23 VLDOIN (power) "Power supply for the VTT LDO.", 24 VTT (power) "Power output for the VTT LDO.", 25 EP (power) "thermal pad."

## TPS51116RGETG4
designator U?
DDR1, DDR2, DDR3 Switcher and LDO, 84 % Duty Cycle, 3 to 28 V, -40 to 85 degC, 24-pin VQFN (RGE), Green (RoHS & no Sb/Br); Manufacturer: Texas Instruments; PartNumber: TPS51116RGETG4; Duty Cycle(Max)(%): 84; Iout(Max)(A): 10; Regulated Outputs(#): 1; SubFamily: Multiple-Output Switching Controller; Switching Frequency(Max)(kHz): 400; Synchronous Rectification: TRUE; Topology: Buck, D-CAP Mode"; Vin(Max)(V): 28; Vin(Min)(V): 3; Vout(Min)(V): 1.5; DatasheetVersion: SLUS609H; PackageVersion: revG, Jul-2011; PackageReference: RGE24-2450X2450TP; PackageDescription: 24-Pin Plastic Quad Flatpack No-Lead, 4 x 4 mm Body, 0.5 mm Pitch; Supplier 1: Digi-Key; Supplier Part Number 1: TPS51116RGETG4-ND; Eco-Plan: Green (RoHS & no Sb/Br); Vout(Max)(V): 3; Mounting Technology: Surface Mount; Code_JEDEC: MO-220; ComponentLink1Description: Datasheet; ComponentLink1URL: http://www.ti.com/general/docs/lit/getliterature.tsp?genericPartNumber=TPS51116&fileType=pdf; ComponentLink2Description: Package Specification; ComponentLink2URL: http://www.ti.com/litv/pdf/mpqf124f
footprint RGE24-2450X2450TP (QFN, 24-Leads, Body 4x4mm, Pitch 0.5mm, Thermal Pad 2.45x2.45mm, TI Recommended)
pins: 1 VTTGND (power) "Power ground output for the VTT LDO.", 2 VTTSNS (in) "Voltage sense input for the VTT LDO. Connect to plus terminal of the VTT LDO output capacitor.", 3 GND (power) "Signal ground. Connect to minus terminal of the VTT LDO output capacitor.", 4 MODE (in) "Discharge mode setting pin. See VDDQ and VTT Discharge Control section.", 5 VTTREF (out) "VTTREF buffered reference output.", 6 COMP (out) "Output of the transconductance amplifier for phase compensation. Connect to V5IN to disable gm amplifier and use D-CAP mode.", 7 NC "No connect.", 8 VDDQSNS "VDDQ reference input for VTT and VTTREF. Power supply for the VTTREF. Discharge current sinking terminal for VDDQ Non-tracking discharge. Output voltage feedback input for VDDQ output if VDDQSET pin is connected to V5IN or (See Datasheet)", 9 VDDQSET (in) "VDDQ output voltage setting pin. See VDDQ Output Voltage Selection section.", 10 S3 (in) "S3 signal input.", 11 S5 (in) "S5 signal input.", 12 NC "No connect.", 13 PGOOD (oc) "Powergood signal open drain output, In HIGH state when VDDQ output voltage is within the target range.", 14 V5FILT (power) "Filtered 5-V power supply input for internal circuits. Connect R-C network from V5IN to V5FILT.", 15 V5IN (power) "5-V power supply input for internal circuits (PWP) and MOSFET gate drivers (PWP, RGE).", 16 CS (in) "Current sense comparator input (-) for resistor current sense scheme. Or overcurrent trip voltage setting input for RDS(on) current sense scheme if connected to V5IN (PWP), V5FILT (RGE) through the voltage setting resistor.", 17 CS_GND (in) "Current sense comparator input (+) and ground for powergood circuit.", 18 PGND (power) "Ground for rectifying (bottom) MOSFET gate driver (PWP, RGE). Also current sense comparator input(+) and ground for powergood circuit (PWP).", 19 DRVL (out) "Rectifying (bottom) MOSFET gate drive output.", 20 LL (power) "Switching (top) MOSFET gate driver return. Current sense comparator input (-) for RDS(on) current sense.", 21 DRVH (out) "Switching (top) MOSFET gate drive output.", 22 VBST (power) "Switching (top) MOSFET driver bootstrap voltage input.", 23 VLDOIN (power) "Power supply for the VTT LDO.", 24 VTT (power) "Power output for the VTT LDO.", 25 EP (power) "thermal pad."

## TPS51117PW
designator U?
1.8 to 28 V Input Synchronous Step Down Controller with DCAP™ Mode, Optimized for Light Load Efficiency, 95% Duty Cycle (Max), -40 to 85 degC, 14-pin TSSOP (PW), Green (RoHS & no Sb/Br); Manufacturer: Texas Instruments; PartNumber: TPS51117PW; Duty Cycle(Max)(%): 95; Iout(Max)(A): 10; Regulated Outputs(#): 1; SubFamily: Multiple-Output Switching Controller; Switching Frequency(Max)(kHz): 550; Synchronous Rectification: TRUE; Topology: Buck, D-CAP Mode"; Vin(Max)(V): 28; Vin(Min)(V): 1.8; Vout(Max)(V): 5.5; Vout(Min)(V): 0.76; DatasheetVersion: SLVS631B; PackageVersion: revG, Feb-2011; PackageReference: PW14; PackageDescription: 14-Pin Thin Small Outline Package 0.65 mm Pitch; Supplier 1: Digi-Key; Supplier Part Number 1: 296-19425-5-ND; Eco-Plan: Green (RoHS & no Sb/Br); Mounting Technology: Surface Mount; Code_JEDEC: MO-153; ComponentLink1Description: Datasheet; ComponentLink1URL: http://www.ti.com/general/docs/lit/getliterature.tsp?genericPartNumber=TPS51117&fileType=pdf; ComponentLink2Description: Package Specification; ComponentLink2URL: http://www.ti.com/litv/pdf/mpds177g
footprint PW14_N (TSOP, 14-Leads, Body 5x4.4mm, Pitch 0.65mm, IPC Medium Density)
footprint PW14_L (TSOP, 14-Leads, Body 5x4.4mm, Pitch 0.65mm, IPC High Density)
footprint PW14_M (TSOP, 14-Leads, Body 5x4.4mm, Pitch 0.65mm, IPC Low Density)
pins: 1 EN_PSV (in) "Enable/power save pin. Connect to ground to disable SMPS. Connect to 3.3 V or 5 V to turn on SMPS andactivate skip mode. Float to turn on SMPS but disable skip mode (forced continuous conduction mode).", 2 TON (in) "On-time / frequency adjustment pin. Connect to LL with 100-k ohm to 600-k ohm resistor.", 3 VOUT (in) "Connect to SMPS output. This terminal serves two functions: output voltage monitor for on-time adjustment, and input for the output discharge switch.", 4 V5FILT (power) "5-V Power supply input for all the control circuitry except gate drivers. Supply 5-V ramp rate should be 17 mV/us or less and Tj < 85degreesC to secure safe start-up of the internal reference circuit. Apply RC filter (See Datasheet)", 5 VFB (in) "SMPS voltage feedback input. Connect the resistor divider here for adjustable output.", 6 PGOOD (oc) "Power-good window comparator, open-drain, output. Pull up to 5-V rail with a pull-up resistor. Current capability is 7.5 mA.", 7 GND (power) "Signal ground pin.", 8 PGND (power) "Ground return for rectifying NFET gate driver. Also cathode of overcurrent protection and source node of the output discharge switch.", 9 DRVL (out) "Rectifying (low-side) NFET gate driver output. Source 5 ohm, sink 1.5 ohm PGND referenced driver. Drive voltage is V5DRV voltage.", 10 V5DRV (power) "5-V Power supply input for FET gate drivers. Internally connected to VBST by a PN diode. Connect 1 uF or more between this pin and PGND to support instantaneous current for gate drivers.", 11 TRIP (in) "Overcurrent trip point set input. Connect resistor from this pin to signal ground to set threshold for both overcurrent and negative overcurrent limit.", 12 LL (power) "High-side NFET gate driver return. Also serves as anode of overcurrent comparator.", 13 DRVH (out) "High-side NFET gate driver output. Source 5 ohm, sink 1.5 ohm LL-node referenced driver. Drive voltage corresponds to VBST to LL voltage.", 14 VBST (power) "Supply input for high-side NFET gate driver (boost terminal). Connect capacitor from this pin to LL-node. An internal PN diode is connected between V5DRV to this pin. Designer can add external schottky diode if forward drop (See Datasheet)"